# Altium schematic symbol library Bipolartransistor_generic.SchLib: 1 symbol
Pins are listed as number, name and electrical type; pins without a type are passive.

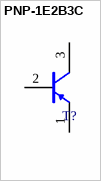
[diagram p0: symbol PNP-1E2B3C]

## PNP-1E2B3C
designator T?
pins: 1 EMITTER, 2 BASIS, 3 COLLECTOR